# EAGLE library part 20POL (library 0_HTL_uC-MEGACARD)
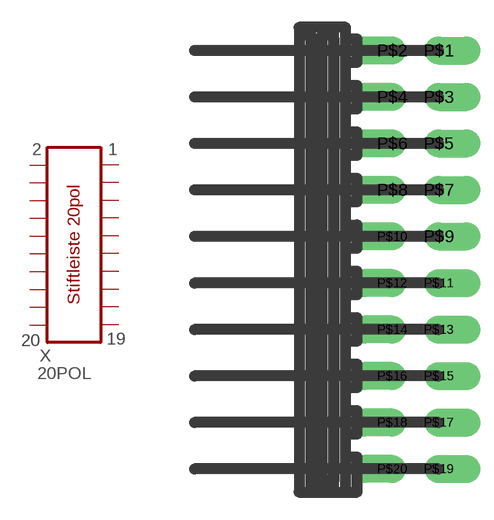
[diagram p0: symbol with the pads of 20POL; footprint 20POL]

Designator prefix X

## 20POL  [20POL]
P$1  P$1  pwr
P$2  P$2  pwr
P$3  P$3
P$4  P$4
P$5  P$5
P$6  P$6
P$7  P$7
P$8  P$8
P$9  P$9
P$10  P$10
P$11  P$11
P$12  P$12
P$13  P$13
P$14  P$14
P$15  P$15
P$16  P$16
P$17  P$17
P$18  P$18
P$19  P$19  pwr
P$20  P$20  pwr

## Footprint 20POL (pad centres in mm)
drill 1.016 pad 1.524 offset: P$1 5.715,12.7; P$2 3.175,12.7; P$3 5.715,10.16; P$4 3.175,10.16; P$5 5.715,7.62; P$6 3.175,7.62; P$7 5.715,5.08; P$8 3.175,5.08; P$9 5.715,2.54; P$10 3.175,2.54; P$11 5.715,0; P$12 3.175,0; P$13 5.715,-2.54; P$14 3.175,-2.54; P$15 5.715,-5.08; P$16 3.175,-5.08; P$17 5.715,-7.62; P$18 3.175,-7.62; P$19 5.715,-10.16; P$20 3.175,-10.16